# EAGLE library part LM358P (library LM358P)
To check availblity click here.! <https://pricing.snapeda.com/parts/LM358P/Texas%20Instruments/view-part?ref=eda>
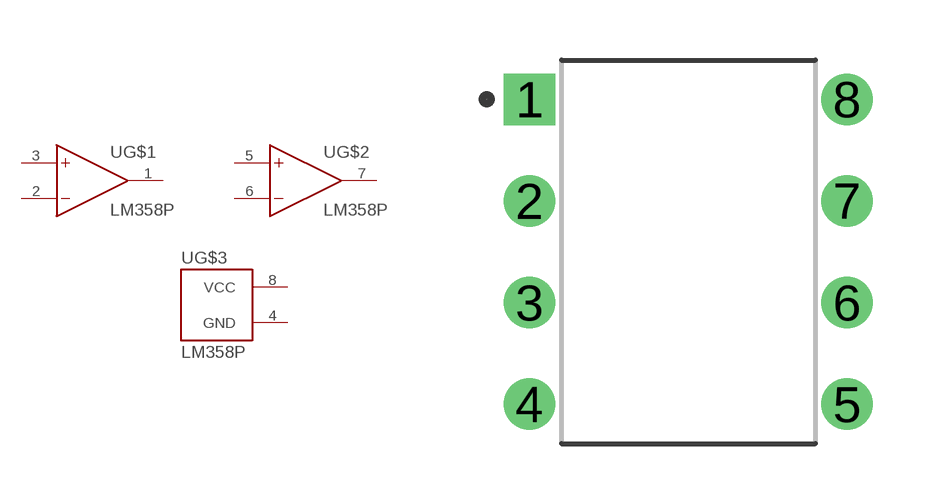
[diagram p0: symbol with the pads of DIP794W45P254L959H508Q8; footprint DIP794W45P254L959H508Q8]

Designator prefix U; gates G$1=LM358P_SECTION1 G$2=LM358P_SECTION2 G$3=LM358P_SECTION3

## LM358P (DESCRIPTION: Dual, 30-V, 700-kHz operational amplifier; MFR: Texas Instruments; MFR-PN: LM358P; PACKAGE: PDIP-8 Texas; SUPPLIER: Punoscho.in; SUPPLIER-PN: PU-0105)  [DIP794W45P254L959H508Q8]
1  G$1:OUT1  out
2  G$1:-IN1  in
3  G$1:+IN1  in
4  G$3:GND  pwr
5  G$2:+IN2  in
6  G$2:-IN2  in
7  G$2:OUT2  out
8  G$3:VCC  pwr

## Footprint DIP794W45P254L959H508Q8 (pad centres in mm)
drill 0.78 pad 1.13 square: 1 -3.97,3.81
drill 0.78 pad 1.13: 2 -3.97,1.27; 3 -3.97,-1.27; 4 -3.97,-3.81; 5 3.97,-3.81; 6 3.97,-1.27; 7 3.97,1.27; 8 3.97,3.81